# Altium integrated library TerminalBlocksRisingCage_10.00mm.IntLib: 14 symbols
Pins are listed as number, name and electrical type; pins without a type are passive.

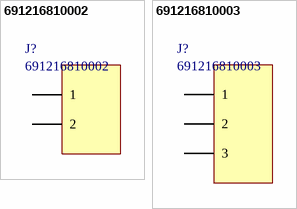
[diagram p0: symbols 691216810002 to 691216810003]

## 691216810002
designator J?
Horizontal Cable Entry with Rising Cage Clamp, Serie 2168 - 10.00 mm; Manufacturer: Wurth Elektronik; ComponentLink1 Description: Manufacturer; ComponentLink2 Description: Datasheet; NoPins: 2; ComponentLink1 URL: http://www.we-online.com; ComponentLink2 URL: http://katalog.we-online.de/em/datasheet/6912168100xx.pdf; Created By: Baojun Chen; Created Date: 6-Aug-15; PartNo: 691216810002
footprint 691216810002 (Serie 2168 - 10.00 mm _ 2 pins)
pins: 1, 2

## 691216810003
designator J?
Horizontal Cable Entry with Rising Cage Clamp, Serie 2168 - 10.00 mm; Manufacturer: Wurth Elektronik; ComponentLink1 Description: Manufacturer; ComponentLink2 Description: Datasheet; NoPins: 3; ComponentLink1 URL: http://www.we-online.com; ComponentLink2 URL: http://katalog.we-online.de/em/datasheet/6912168100xx.pdf; Created By: Baojun Chen; Created Date: 6-Aug-15; PartNo: 691216810003
footprint 691216810003 (Serie 2168 - 10.00 mm _ 3 pins)
pins: 1, 2, 3


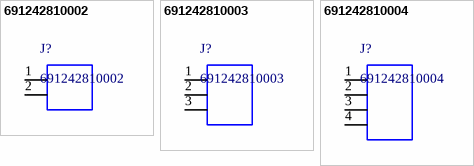
[diagram p1: symbols 691242810002 to 691242810004]

## 691242810002
designator J?
WR-TBL Horizontal Cable Entry With Rising Cage Clamp,Serie 2428 - 10.00 mm; Manufacturer: Wurth Elektronik; ComponentLink1 Description: Manufacturer; ComponentLink2 Description: Datasheet; ComponentLink1URL: http://www.we-online.de; ComponentLink2URL: http://katalog.we-online.de/em/datasheet/6912428100XX.pdf; Created by: Baojun Chen; Created Date: 9.Sep.2015; partNo: 691242810002
footprint 691242810002 (Serie 2428 - 10.00 mm _ 2 pins)
pins: 1, 2

## 691242810003
designator J?
WR-TBL Horizontal Cable Entry With Rising Cage Clamp,Serie 2428 - 10.00 mm; Manufacturer: Wurth Elektronik; ComponentLink1 Description: Manufacturer; ComponentLink2 Description: Datasheet; ComponentLink1URL: http://www.we-online.de; ComponentLink2URL: http://katalog.we-online.de/em/datasheet/6912428100XX.pdf; Created by: Baojun Chen; Created Date: 9.Sep.2015; partNo: 691242810003
footprint 691242810003 (Serie 2428 - 10.00 mm _ 3 pins)
pins: 1, 2, 3

## 691242810004
designator J?
WR-TBL Horizontal Cable Entry With Rising Cage Clamp,Serie 2428 - 10.00 mm; Manufacturer: Wurth Elektronik; ComponentLink1 Description: Manufacturer; ComponentLink2 Description: Datasheet; ComponentLink1URL: http://www.we-online.de; ComponentLink2URL: http://katalog.we-online.de/em/datasheet/6912428100XX.pdf; Created by: Baojun Chen; Created Date: 9.Sep.2015; partNo: 691242810004
footprint 691242810004 (Serie 2428 - 10.00 mm _ 4 pins)
pins: 1, 2, 3, 4


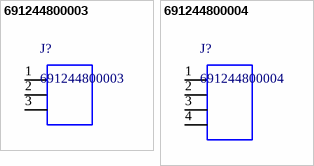
[diagram p2: symbols 691244800003 to 691244800004]

## 691244800003
designator J?
WR-TBL Vertical Cable Entry With Rising Cage Clamp,Serie 2448 - 10.00 mm; Manufacturer: Wurth Elektronik; ComponentLink1 Description: Manufacturer; ComponentLink2 Description: Datasheet; ComponentLink1URL: http://www.we-online.de; ComponentLink2URL: http://katalog.we-online.de/em/datasheet/6912448000xx.pdf; Created by: Baojun Chen; Created Date: 15.Sep.2015; partNo: 691244800003
footprint 691244800003 (Serie 2448 - 10.00 mm _ 3 pins)
pins: 1, 2, 3

## 691244800004
designator J?
WR-TBL Vertical Cable Entry With Rising Cage Clamp,Serie 2448 - 10.00 mm; Manufacturer: Wurth Elektronik; ComponentLink1 Description: Manufacturer; ComponentLink2 Description: Datasheet; ComponentLink1URL: http://www.we-online.de; ComponentLink2URL: http://katalog.we-online.de/em/datasheet/6912448000xx.pdf; Created by: Baojun Chen; Created Date: 15.Sep.2015; partNo: 691244800004
footprint 691244800004 (Serie 2448 - 10.00 mm _ 4 pins)
pins: 1, 2, 3, 4


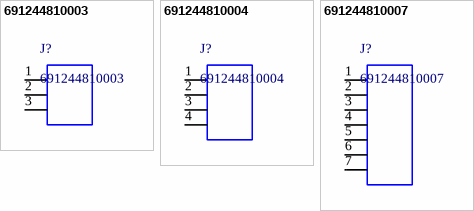
[diagram p3: symbols 691244810003 to 691244810007]

## 691244810003
designator J?
WR-TBL Horizontal Cable Entry With Rising Cage Clamp,Serie 2448 - 10.00 mm; Manufacturer: Wurth Elektronik; ComponentLink1 Description: Manufacturer; ComponentLink2 Description: Datasheet; ComponentLink1URL: http://www.we-online.de; ComponentLink2URL: http://katalog.we-online.de/em/datasheet/6912448100XX.pdf; Created by: Baojun Chen; Created Date: 15.Sep.2015; partNo: 691244810003
footprint 691244810003 (Serie 2448 - 10.00 mm _ 3 pins)
pins: 1, 2, 3

## 691244810004
designator J?
WR-TBL Horizontal Cable Entry With Rising Cage Clamp,Serie 2448 - 10.00 mm; Manufacturer: Wurth Elektronik; ComponentLink1 Description: Manufacturer; ComponentLink2 Description: Datasheet; ComponentLink1URL: http://www.we-online.de; ComponentLink2URL: http://katalog.we-online.de/em/datasheet/6912448100XX.pdf; Created by: Baojun Chen; Created Date: 15.Sep.2015; partNo: 691244810004
footprint 691244810004 (Serie 2448 - 10.00 mm _ 4 pins)
pins: 1, 2, 3, 4

## 691244810007
designator J?
WR-TBL Horizontal Cable Entry With Rising Cage Clamp,Serie 2448 - 10.00 mm; Manufacturer: Wurth Elektronik; ComponentLink1 Description: Manufacturer; ComponentLink2 Description: Datasheet; ComponentLink1URL: http://www.we-online.de; ComponentLink2URL: http://katalog.we-online.de/em/datasheet/6912448100XX.pdf; Created by: Baojun Chen; Created Date: 15.Sep.2015; partNo: 691244810007
footprint 691244810007 (Serie 2448 - 10.00 mm _ 7 pins)
pins: 1, 2, 3, 4, 5, 6, 7


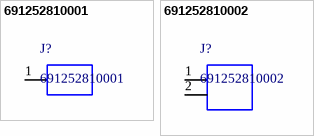
[diagram p4: symbols 691252810001 to 691252810002]

## 691252810001
designator J?
WR-TBL Horizontal Cable Entry With Rising Cage Clamp,Serie 2528 - 10.00 mm; Manufacturer: Wurth Elektronik; ComponentLink1 Description: Manufacturer; ComponentLink2 Description: Datasheet; ComponentLink1URL: http://www.we-online.de; ComponentLink2URL: http://katalog.we-online.de/em/datasheet/6912528100xx.pdf; Created by: Baojun Chen; Created Date: 15.Sep.2015; partNo: 691252810001
footprint 691252810001 (Serie 2528 - 10.00 mm _ 1 pin)
pins: 1

## 691252810002
designator J?
WR-TBL Horizontal Cable Entry With Rising Cage Clamp,Serie 2528 - 10.00 mm; Manufacturer: Wurth Elektronik; ComponentLink1 Description: Manufacturer; ComponentLink2 Description: Datasheet; ComponentLink1URL: http://www.we-online.de; ComponentLink2URL: http://katalog.we-online.de/em/datasheet/6912528100xx.pdf; Created by: Baojun Chen; Created Date: 15.Sep.2015; partNo: 691252810002
footprint 691252810002 (Serie 2528 - 10.00 mm _ 2 pins)
pins: 1, 2


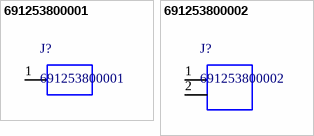
[diagram p5: symbols 691253800001 to 691253800002]

## 691253800001
designator J?
WR-TBL Vertical Cable Entry With Rising Cage Clamp,Serie 2538 - 10.00 mm; Manufacturer: Wurth Elektronik; ComponentLink1 Description: Manufacturer; ComponentLink2 Description: Datasheet; ComponentLink1URL: http://www.we-online.de; ComponentLink2URL: http://katalog.we-online.de/em/datasheet/6912538000xx.pdf; Created by: Baojun Chen; Created Date: 15.Sep.2015; partNo: 691253800001
footprint 691253800001 (Serie 2538 - 10.00 mm _ 1 pin)
pins: 1

## 691253800002
designator J?
WR-TBL Vertical Cable Entry With Rising Cage Clamp,Serie 2538 - 10.00 mm; Manufacturer: Wurth Elektronik; ComponentLink1 Description: Manufacturer; ComponentLink2 Description: Datasheet; ComponentLink1URL: http://www.we-online.de; ComponentLink2URL: http://katalog.we-online.de/em/datasheet/6912538000xx.pdf; Created by: Baojun Chen; Created Date: 15.Sep.2015; partNo: 691253800002
footprint 691253800002 (Serie 2538 - 10.00 mm _ 2 pins)
pins: 1, 2